# Altium integrated library FUSES.IntLib: 5 symbols
Pins are listed as number, name and electrical type; pins without a type are passive.

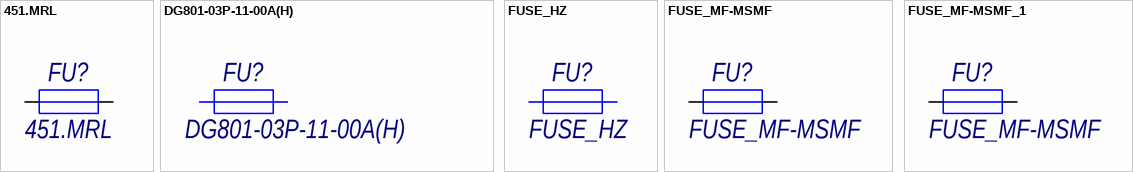
[diagram p0: symbols 451.MRL to FUSE_MF-MSMF_1]

## 451.MRL
designator FU?
Предохраниетель SMD; ComponentDescription: Предохраниетель SMD, 451.MRL; ComponentTypе: Предохраниетель SMD
footprint 451.MRL (Surface Mount Fuses)
pins: 1, 2
1 alternate drawing of the same symbol

## DG801-03P-11-00A(H)
designator FU?
Клемная колодка с предохранителем; ComponentDescription: Клемная колодка с предохранителем, DG801-03P-11-00A(H); ComponentTypе: Клемная колодка с предохранителем
footprint DG801-03P-11-00A(H) (BATTERY HOLDER)
1 alternate drawing of the same symbol

## FUSE_HZ
designator FU?
Клемная колодка с предохранителем; ComponentDescription: Клемная колодка с предохранителем, FUSE_HZ; ComponentTypе: Клемная колодка с предохранителем
footprint FUSE_HZ (Колодка с держателем предохранителя)
1 alternate drawing of the same symbol

## FUSE_MF-MSMF
designator FU?
Предохраниетель востанавливаемый; ComponentDescription: Предохраниетель востанавливаемый, FUSE_MF-MSMF; ComponentTypе: Предохраниетель востанавливаемый
footprint FUSE_MF-MSMF260-2
pins: 1, 2
1 alternate drawing of the same symbol

## FUSE_MF-MSMF_1
designator FU?, comment FUSE_MF-MSMF
Предохраниетель востанавливаемый; ComponentDescription: Предохраниетель востанавливаемый, FUSE_MF-MSMF; ComponentTypе: Предохраниетель востанавливаемый
footprint FUSE_MF-MSMF260-2
pins: 1, 2
1 alternate drawing of the same symbol